# EAGLE library part USB_FULL_TALL (library vocore_dock)
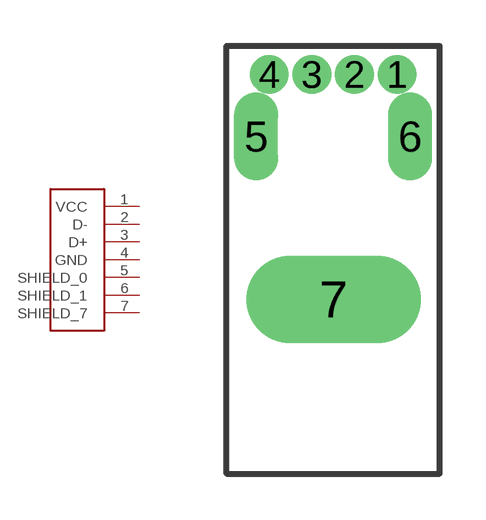
[diagram p1: symbol with the pads of USB_FULL_TALL_1PRIMARY; footprint USB_FULL_TALL_1PRIMARY]

Designator prefix -

## USB_FULL_TALL  [USB_FULL_TALL_1PRIMARY]
1  VCC  pwr
2  D-
3  D+
4  GND  pwr
5  SHIELD_0
6  SHIELD_1
7  SHIELD_7

## Footprint USB_FULL_TALL_1PRIMARY (pad centres in mm)
Original name USB_FULL_TALL
drill 0.762 pad 1.016: 1 5.588,13.081; 2 4.191,13.081; 3 2.794,13.081; 4 1.397,13.081
drill 0.94 pad 1.194 long: 5 0.965,11.049; 6 6.02,11.049
drill 1.905 pad 2.286 long: 7 3.505,5.715